# EAGLE library part OPV_2X (library robo_ag)
Operationsverstärker Reichelt: LF 442 CN +/- 15V
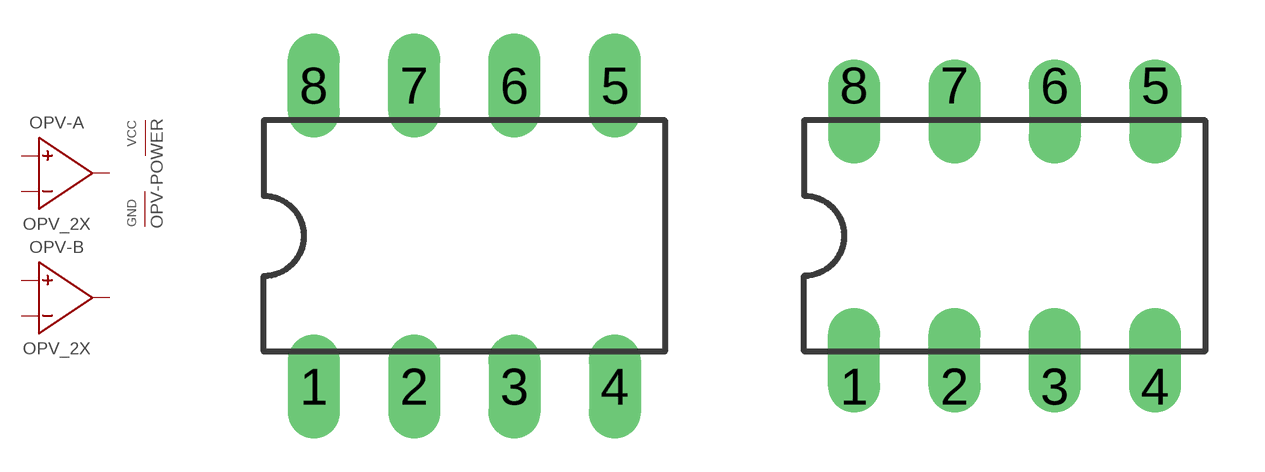
[diagram p9: symbol with the pads of IC_DIL08; footprints IC_DIL08, IC_DIL08_IN]

Designator prefix OPV; gates -A=OPV -B=OPV -POWER=POWER

## OPV_2X  [IC_DIL08]
1  -A:OUT  out
2  -A:IN-  in
3  -A:IN+  in
4  -POWER:GND  pwr
5  -B:IN+  in
6  -B:IN-  in
7  -B:OUT  out
8  -POWER:VCC  pwr

## OPV_2X-IN  [IC_DIL08_IN]
Pads as for IC_DIL08

## OPV_2X-OUT  [IC_DIL08_OUT]
Pads as for IC_DIL08

## Footprint IC_DIL08 (pad centres in mm)
Dual In Line Package
drill 0.813 long: 1 -3.81,-3.81; 2 -1.27,-3.81; 3 1.27,-3.81; 4 3.81,-3.81; 5 3.81,3.81; 6 1.27,3.81; 7 -1.27,3.81; 8 -3.81,3.81

## Footprint IC_DIL08_IN (pad centres in mm)
Dual In Line Package
drill 0.813 offset: 1 -3.81,-3.81; 2 -1.27,-3.81; 3 1.27,-3.81; 4 3.81,-3.81; 5 3.81,3.81; 6 1.27,3.81; 7 -1.27,3.81; 8 -3.81,3.81

## Footprint IC_DIL08_OUT (pad centres in mm)
Dual In Line Package
drill 0.813 offset: 1 -3.81,-3.81; 2 -1.27,-3.81; 3 1.27,-3.81; 4 3.81,-3.81; 5 3.81,3.81; 6 1.27,3.81; 7 -1.27,3.81; 8 -3.81,3.81